# Altium schematic symbol library Relay.SchLib: 4 symbols
Pins are listed as number, name and electrical type; pins without a type are passive.

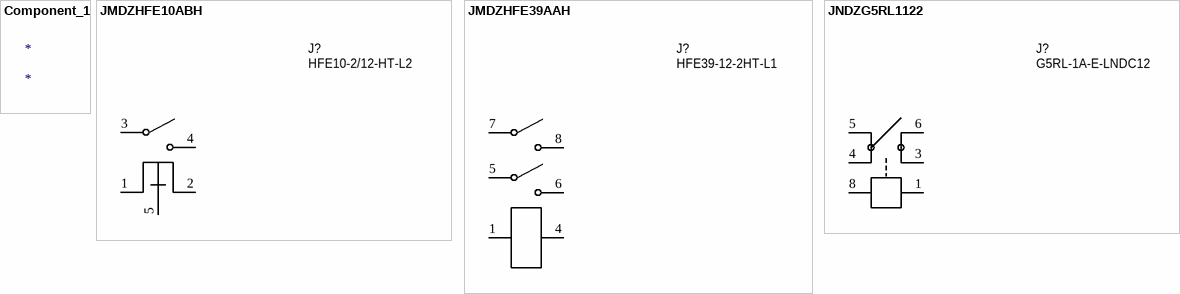
[diagram p0: symbols Component_1 to JNDZG5RL1122]

## Component_1
designator *

## JMDZHFE10ABH
designator J?, comment HFE10-2/12-HT-L2
Magnetic Latching Relay HFE10-2/12-HT-L2 50A 277VAC 12VDC; Manufacturer: HONGFA ELECTROACOUSTIC; TemperatureRange: -40 to 70°C; MountType: DIP; PackageReference: HFE10-2; Published: 1-Jun-2017; Publisher: GreenBox; VenderID: HFE10-2/12-HT-L2
footprint HFE10-2 (Body 39 x 15 mm (LxW typ))
pins: 1, 2, 3, 4, 5 5(+)
2 alternate drawings of the same symbol

## JMDZHFE39AAH
designator J?, comment HFE39-12-2HT-L1
Magnetic Latching Relay HFE39-12-2HT-L1 16A 250VAC 12VDC; Manufacturer: HONGFA ELECTROACOUSTIC; TemperatureRange: -40 to 70°C; MountType: DIP; PackageReference: HFE39-L1; Published: 1-Jun-2017; Publisher: GreenBox; VenderID: HFE39-12-2HT-L1
footprint HFE39-L1 (Body 39 x 15 mm (LxW typ))
pins: 1, 4, 5, 6, 7, 8
2 alternate drawings of the same symbol

## JNDZG5RL1122
designator J?, comment G5RL-1A-E-LNDC12
Power/Signal Relay G5RL-1A-E-LNDC12 16A 250VAC 12VDC; Manufacturer: OMRON; TemperatureRange: -40 to 70°C; MountType: DIP; PackageReference: G5RL-1A-E; Published: 1-Jun-2017; Publisher: GreenBox; VenderID: G5RL-1A-E-LNDC12
footprint G5RL-1A-E
pins: 1, 3, 4, 5, 6, 8
2 alternate drawings of the same symbol